# EAGLE library part B7B-XH (library con-JST)
JST XH series header 2.50mm pitch disconnectable crimp style connectors, vertical (side entry type), 7 pins
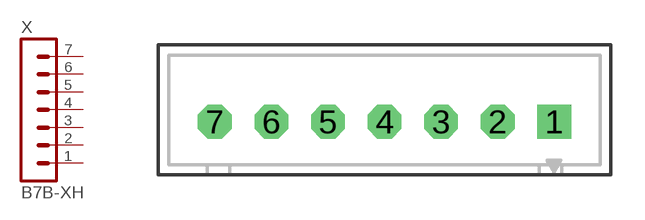
[diagram p1: symbol with the pads of B7B-XH-A; footprint B7B-XH-A]

Designator prefix X

## B7B-XH-A  [B7B-XH-A]
1  1  pas
2  2  pas
3  3  pas
4  4  pas
5  5  pas
6  6  pas
7  7  pas

## B7B-XH-2  [B7B-XH-A]
Pads as for B7B-XH-A

## Footprint B7B-XH-A (pad centres in mm)
JST XH series header 2.50mm pitch disconnectable crimp style connectors, vertical (top entry type), 7 pins
drill 0.9 pad 1.5 square: 1 7.5,0
drill 0.9 pad 1.5 octagon: 2 5,0; 3 2.5,0; 4 0,0; 5 -2.5,0; 6 -5,0; 7 -7.5,0